# Altium schematic symbol library NPN.SchLib: 1 symbol
Pins are listed as number, name and electrical type; pins without a type are passive.

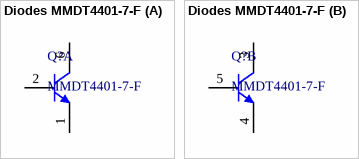
[diagram p0: symbol Diodes MMDT4401-7-F]

## Diodes MMDT4401-7-F
designator Q?, comment MMDT4401-7-F
Small Signal Bipolar Transistor, 2-Element, NPN, Silicon; Manufacturer: Diodes; Description: Small Signal Bipolar Transistor, 0.6A I(C), 40V V(BR)CEO, 2-Element, NPN, Silicon; Package Body Material: Plastic; Additional Feature: HIGH RELIABILITY; Max Collector Current: 600mA; Collector-emitter Voltage-Max: 40V; DC Current Gain-Min (hFE): 40; Number of Elements: 2; Power Dissipation-Max (Abs): 200mW; Time @ Peak Reflow Temperature-Max (s): 40s; Transistor Application: SWITCHING; Frequency: 250MHz; Turn-off Time-Max (toff): 255ns; Turn-on Time-Max (ton): 35ns; Qualification Status: Not Qualified; Supplier: Future Electronics; Supplier Part Number: 2830255; Manufacturer Part Number: MMDT4401-7-F; RoHS: Yes; Category: BJTs; Stock: 108000; Pricing: 3000=0,0444, 9000=0,0428, 15000=0,0421, 60000=0,0401, 90000=0,0389 (USD); Pins: 6; Package Shape: Rectangular; Terminal Finish: Tin; Transistor Element Material: SILICON; Max Operating Temperature: 150°C; JESD-609 Code: e3; Polarity/Channel Type: NPN; JESD-30 Code: R-PDSO-G6; Moisture Sensitivity Level: 1; Package Style: SMALL OUTLINEMeter; Peak Reflow Temperature (Cel): 260°C; Surface Mount: Yes; Terminal Form: Gull Wing; Terminal Position: DUAL; Reach SVHC Compliant: Yes; RoHS Compliant: Yes; ComponentLink1URL: https://datasheet.ciiva.com:443/pdfs/VipMasterIC/IC/DIOD/DIODS11071/DIODS11071-1.pdf?src-supplier=IHS+Markit; ComponentLink1Description: https://datasheet.ciiva.com:443/pdfs/VipMasterIC/IC/DIOD/DIODS11071/DIODS11071-1.pdf?src-supplier=IHS+Markit; ComponentLink2URL: https://datasheet.ciiva.com/5782/ds30111-5782768.pdf?src-supplier=Farnell; ComponentLink2Description: https://datasheet.ciiva.com/5782/ds30111-5782768.pdf?src-supplier=Farnell; ComponentLink3URL: https://datasheet.ciiva.com/5782/ds30111-5782768.pdf?src-supplier=Avnet; ComponentLink3Description: https://datasheet.ciiva.com/5782/ds30111-5782768.pdf?src-supplier=Avnet; ComponentLink4URL: https://datasheet.ciiva.com/17059/0900766b80e49824-17059229.pdf?src-supplier=Allied+Electronics; ComponentLink4Description: https://datasheet.ciiva.com/17059/0900766b80e49824-17059229.pdf?src-supplier=Allied+Electronics; ComponentLink5URL: https://datasheet.ciiva.com/968/ds30111-968196.pdf?src-supplier=Digikey; ComponentLink5Description: https://datasheet.ciiva.com/968/ds30111-968196.pdf?src-supplier=Digikey; ComponentLink6URL: https://datasheet.ciiva.com/968/ds30111-968197.pdf?src-supplier=Digikey; ComponentLink6Description: https://datasheet.ciiva.com/968/ds30111-968197.pdf?src-supplier=Digikey; ComponentLink7URL: https://datasheet.ciiva.com/968/ds30111-968198.pdf?src-supplier=Digikey; ComponentLink7Description: https://datasheet.ciiva.com/968/ds30111-968198.pdf?src-supplier=Digikey; ComponentLink8URL: https://datasheet.ciiva.com/15224/getdatasheetpartid-240136-15224396.pdf?src-supplier=Verical; ComponentLink8Description: https://datasheet.ciiva.com/15224/getdatasheetpartid-240136-15224396.pdf?src-supplier=Verical
footprint Diodes SOT363-6P (SOT363-6P)
part A pins: 1 E1, 2 B1, 6 C1
part B pins: 3 C2, 4 E2, 5 B2